# Altium footprint library Board to Wire.PcbLib: 2 footprints
Each footprint in its own frame and in the unit in brackets; x right, y up, seen from the top. Pads: shape width x height; smd on the part's side, far side on the other; paste and mask are expansions set on the pad; w line width, h text height; cw(c..) or ccw(c..) is an arc to the next point about the centre after c.
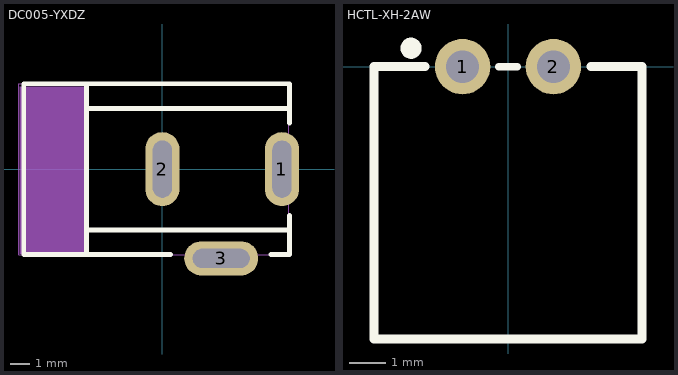
[diagram p0: the footprints below, top view; thin cyan lines are the x and y axes]

## DC005-YXDZ [mm] "淘宝优信电子售卖的DC005插座封装 品牌未知"
pads (3):
  oval 1.8x3.9 hole 1 slot 3 at 90 deg: 1(6.3,0) 2(0,0)
  oval 3.9x1.8 hole 1 slot 3 at 0 deg: 3(3.1,-4.7)
Top Overlay:
  lines w0.254: -4,-4.5 -4,4.5 ; -3.92,-3.2 6.7,-3.2 ; -3.92,3.2 6.7,3.2 ; 0.436,-4.5 -7.3,-4.5 -7.3,4.5 6.7,4.5 6.7,2.425 ; 5.715,-4.5 6.7,-4.5 6.7,-2.425
Mechanical 6:
  region: -7.5,4.35 -4.1,4.35 -4.1,-4.45 -7.5,-4.45
Mechanical 15:
  region: 6.71,4.5 6.71,4.475 6.675,4.44 6.625,4.44 6.59,4.475 6.59,4.5 6.59,4.525 6.625,4.56 6.675,4.56 6.71,4.525 6.71,4.5
  region: 6,1.25 6.4,1.25 6.4,-1.25 6,-1.25
  region: 1.95,-4.5 4.45,-4.5 4.45,-4.9 1.95,-4.9
  region: 0.2,-1.25 -0.2,-1.25 -0.2,1.25 0.2,1.25
  region: 1.95,-4.9 4.45,-4.9 4.45,-4.44 1.95,-4.44
  lines w0.051: -7.55,-4.5 6.65,-4.5 6.65,4.5 -7.55,4.5 -7.55,-4.5
3D body "DC005.step": height 11.5, standoff -3, extent -7.65,-4.8 6.75,4.5

## HCTL-XH-2AW [mm] "HCTL(华灿天禄) 2.5mm版对线插座封装"
pads (2):
  round 1.524 hole 0.9: 1(-1.25,0) 2(1.25,0)
Top Overlay:
  circle w0.3: c-2.667,0.508 r0.14
  lines w0.2: -0.254,0 0.254,0
  lines w0.25: -2.286,0 -3.683,0 -3.683,-7.493 3.683,-7.493 3.683,0 2.286,0
3D body "XH-2AW.STEP": height 5.9, standoff -3, extent -3.765,-7.406 3.735,0.314